# Altium footprint library 1N4148.PcbLib: 1 footprints
Each footprint in its own frame and in the unit in brackets; x right, y up, seen from the top. Pads: shape width x height; smd on the part's side, far side on the other; paste and mask are expansions set on the pad; w line width, h text height; cw(c..) or ccw(c..) is an arc to the next point about the centre after c.
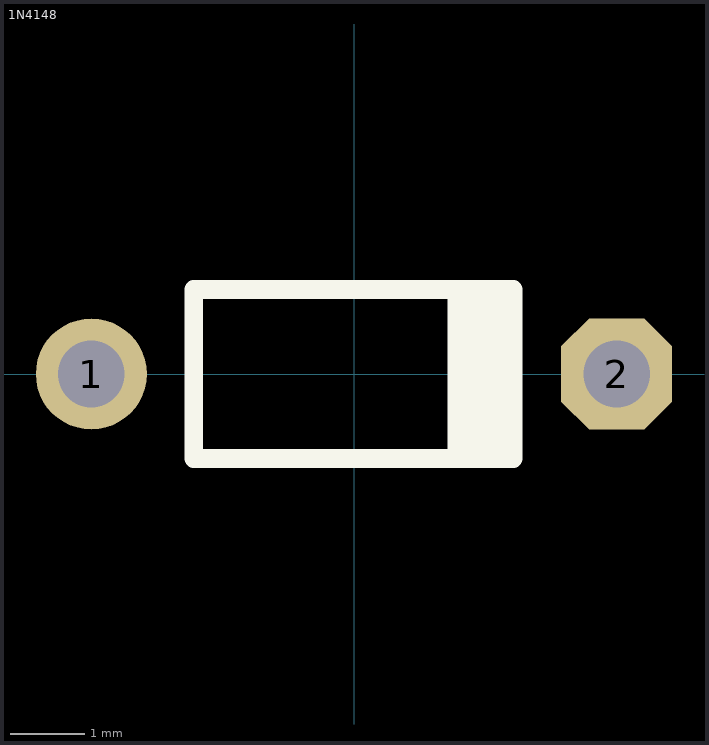
[diagram p0: the footprint, top view; thin cyan lines are the x and y axes]

## 1N4148 [mm] "二极管"
pads (2):
  round 1.5 hole 0.9: 1(-3.55,0)
  oct 1.5x1.5 hole 0.9: 2(3.55,0)
Top Overlay:
  lines w0.254: 1.391,-1.143 1.391,1.143 ; 1.645,-1.143 1.645,1.143 ; 1.899,-1.143 1.899,1.143 ; -2.165,-1.143 -2.165,1.143 2.153,1.143 2.153,-1.143 -2.165,-1.143